# Altium schematic symbol library Logic-Gate.SchLib: 1 symbol
Pins are listed as number, name and electrical type; pins without a type are passive.

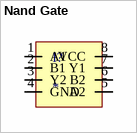
[diagram p0: symbol Nand Gate]

## Nand Gate
designator I?
pins: 1 A1, 2 B1, 3 Y2, 4 GND, 5 A2, 6 B2, 7 Y1, 8 VCC